# Altium schematic symbol library SCH - MCU - STM32 - ST MICROELECTRONICS STM32U5A9NJHXQ TFBGA216.SchLib: 1 symbol
Pins are listed as number, name and electrical type; pins without a type are passive.

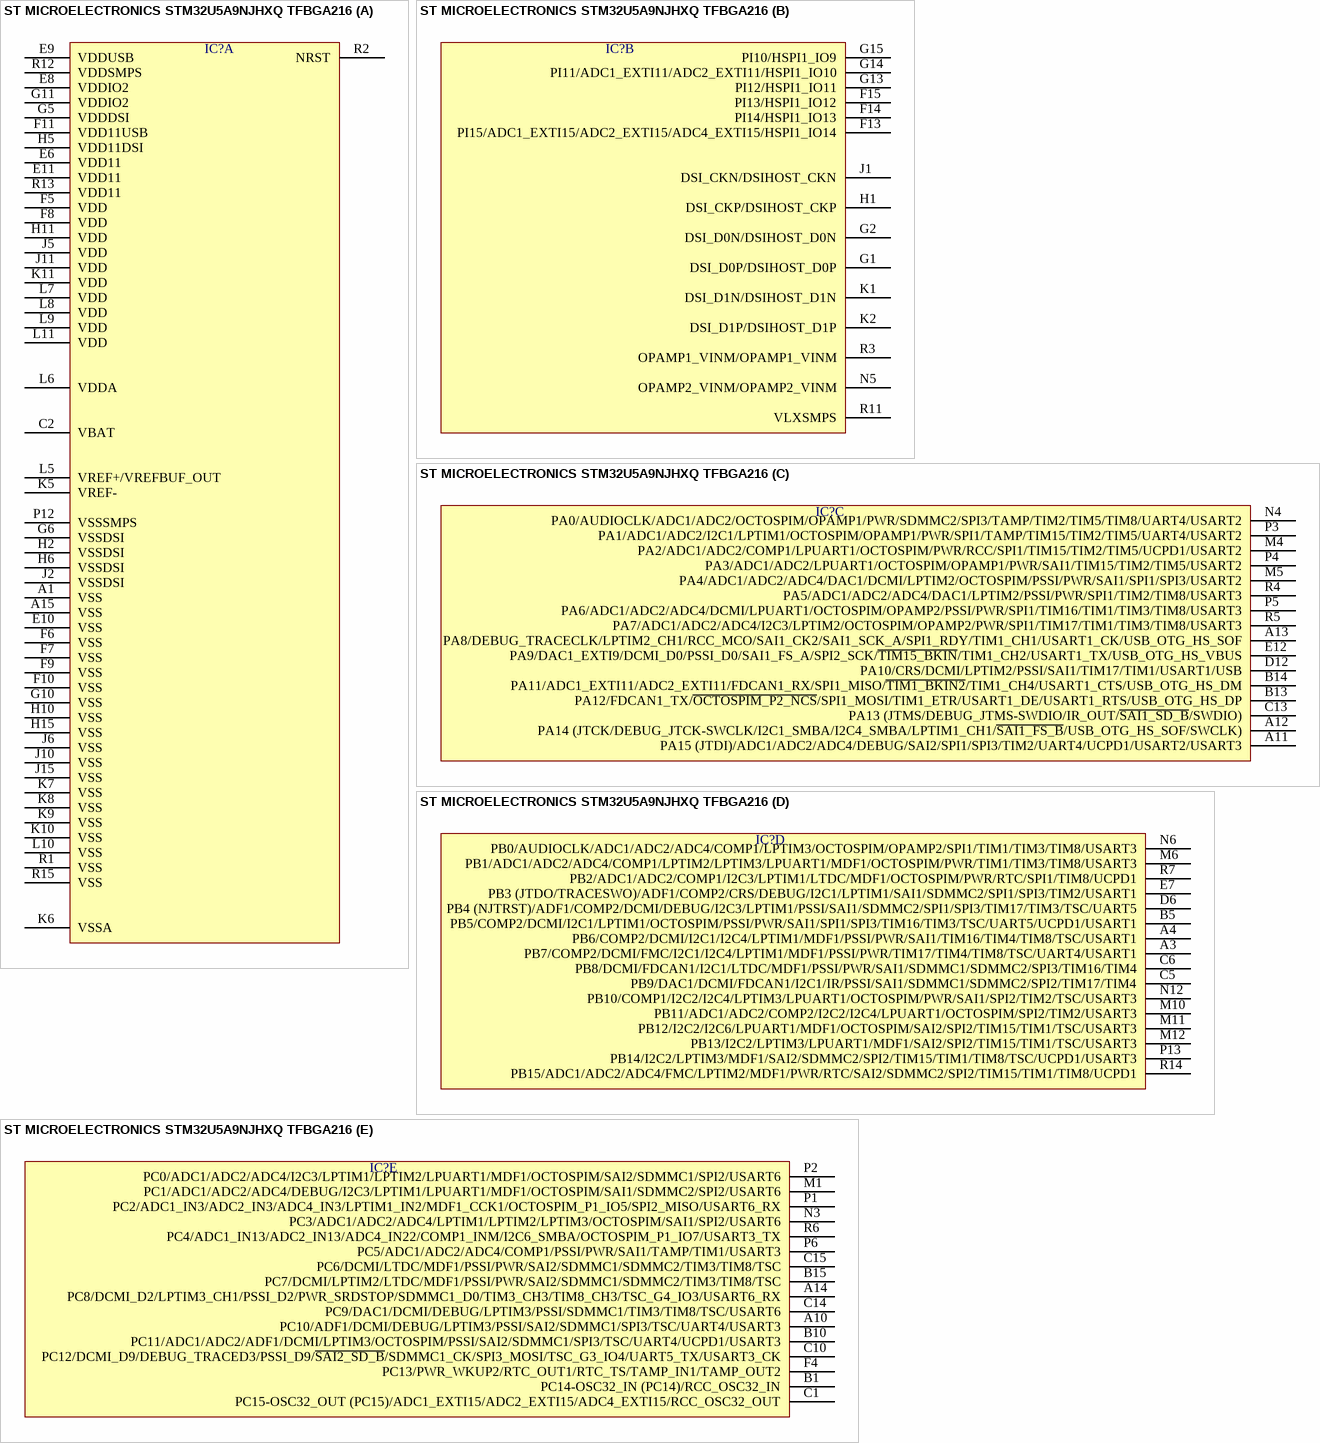
[diagram p0: symbol ST MICROELECTRONICS STM32U5A9NJHXQ TFBGA216]

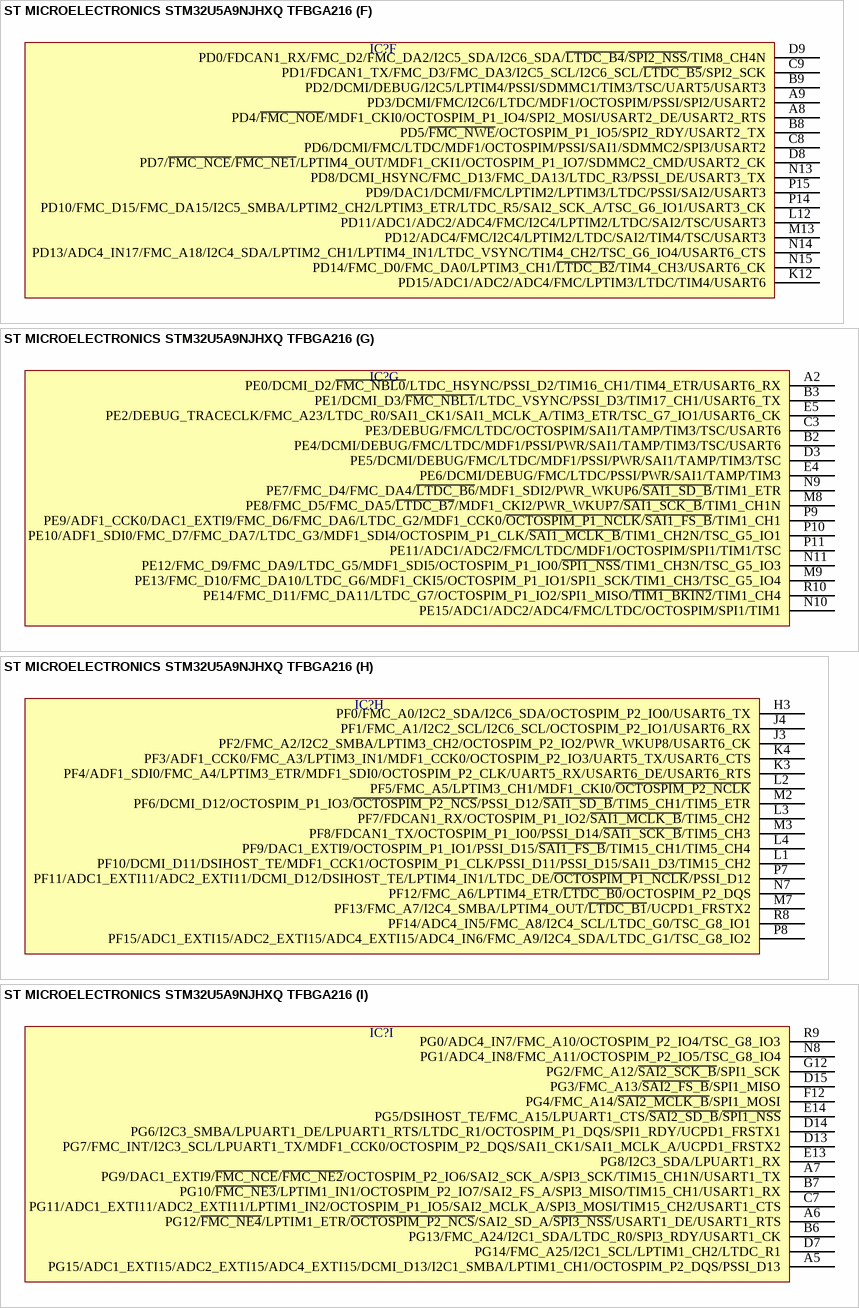
[diagram p1: symbol ST MICROELECTRONICS STM32U5A9NJHXQ TFBGA216]

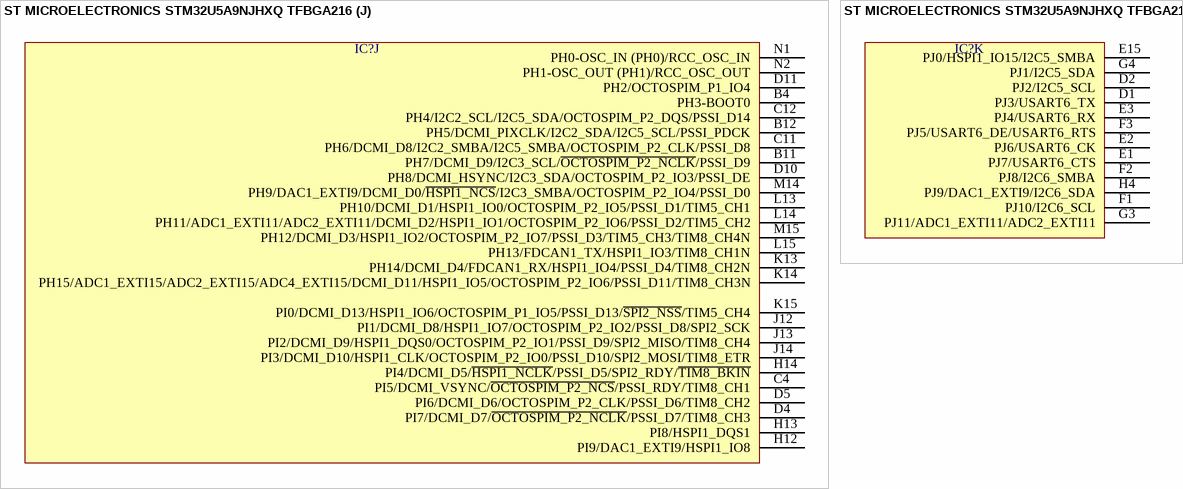
[diagram p2: symbol ST MICROELECTRONICS STM32U5A9NJHXQ TFBGA216]

## ST MICROELECTRONICS STM32U5A9NJHXQ TFBGA216
designator IC?  (value not drawn)
part A pins: A1 VSS, A15 VSS, C2 VBAT, E6 VDD11, E8 VDDIO2, E9 VDDUSB, E10 VSS, E11 VDD11, F5 VDD, F6 VSS, F7 VSS, F8 VDD, F9 VSS, F10 VSS, F11 VDD11USB, G5 VDDDSI, G6 VSSDSI, G10 VSS, G11 VDDIO2, H2 VSSDSI, H5 VDD11DSI, H6 VSSDSI, H10 VSS, H11 VDD, H15 VSS, J2 VSSDSI, J5 VDD, J6 VSS, J10 VSS, J11 VDD, J15 VSS, K5 VREF-, K6 VSSA, K7 VSS, K8 VSS, K9 VSS, K10 VSS, K11 VDD, L5 VREF+/VREFBUF_OUT, L6 VDDA, L7 VDD, L8 VDD, L9 VDD, L10 VSS, L11 VDD, P12 VSSSMPS, R1 VSS, R2 NRST, R12 VDDSMPS, R13 VDD11, R15 VSS
part B pins: F13 PI15/ADC1_EXTI15/ADC2_EXTI15/ADC4_EXTI15/HSPI1_IO14, F14 PI14/HSPI1_IO13, F15 PI13/HSPI1_IO12, G1 DSI_D0P/DSIHOST_D0P, G2 DSI_D0N/DSIHOST_D0N, G13 PI12/HSPI1_IO11, G14 PI11/ADC1_EXTI11/ADC2_EXTI11/HSPI1_IO10, G15 PI10/HSPI1_IO9, H1 DSI_CKP/DSIHOST_CKP, J1 DSI_CKN/DSIHOST_CKN, K1 DSI_D1N/DSIHOST_D1N, K2 DSI_D1P/DSIHOST_D1P, N5 OPAMP2_VINM/OPAMP2_VINM, R3 OPAMP1_VINM/OPAMP1_VINM, R11 VLXSMPS
part C pins: A11 PA15 (JTDI)/ADC1/ADC2/ADC4/DEBUG/SAI2/SPI1/SPI3/TIM2/UART4/UCPD1/USART2/USART3, A12 PA14 (JTCK/DEBUG_JTCK-SWCLK/I2C1_SMBA/I2C4_SMBA/LPTIM1_CH1/~{SAI1_FS_B}/USB_OTG_HS_SOF/SWCLK), A13 PA8/DEBUG_TRACECLK/LPTIM2_CH1/RCC_MCO/SAI1_CK2/SAI1_SCK_A/SPI1_RDY/TIM1_CH1/USART1_CK/USB_OTG_HS_SOF, B13 PA12/FDCAN1_TX/~{OCTOSPIM_P2_NCS}/SPI1_MOSI/TIM1_ETR/USART1_DE/USART1_RTS/USB_OTG_HS_DP, B14 PA11/ADC1_EXTI11/ADC2_EXTI11/FDCAN1_RX/SPI1_MISO/~{TIM1_BKIN2}/TIM1_CH4/USART1_CTS/USB_OTG_HS_DM, C13 PA13 (JTMS/DEBUG_JTMS-SWDIO/IR_OUT/~{SAI1_SD_B}/SWDIO), D12 PA10/CRS/DCMI/LPTIM2/PSSI/SAI1/TIM17/TIM1/USART1/USB, E12 PA9/DAC1_EXTI9/DCMI_D0/PSSI_D0/SAI1_FS_A/SPI2_SCK/~{TIM15_BKIN}/TIM1_CH2/USART1_TX/USB_OTG_HS_VBUS, M4 PA2/ADC1/ADC2/COMP1/LPUART1/OCTOSPIM/PWR/RCC/SPI1/TIM15/TIM2/TIM5/UCPD1/USART2, M5 PA4/ADC1/ADC2/ADC4/DAC1/DCMI/LPTIM2/OCTOSPIM/PSSI/PWR/SAI1/SPI1/SPI3/USART2, N4 PA0/AUDIOCLK/ADC1/ADC2/OCTOSPIM/OPAMP1/PWR/SDMMC2/SPI3/TAMP/TIM2/TIM5/TIM8/UART4/USART2, P3 PA1/ADC1/ADC2/I2C1/LPTIM1/OCTOSPIM/OPAMP1/PWR/SPI1/TAMP/TIM15/TIM2/TIM5/UART4/USART2, P4 PA3/ADC1/ADC2/LPUART1/OCTOSPIM/OPAMP1/PWR/SAI1/TIM15/TIM2/TIM5/USART2, P5 PA6/ADC1/ADC2/ADC4/DCMI/LPUART1/OCTOSPIM/OPAMP2/PSSI/PWR/SPI1/TIM16/TIM1/TIM3/TIM8/USART3, R4 PA5/ADC1/ADC2/ADC4/DAC1/LPTIM2/PSSI/PWR/SPI1/TIM2/TIM8/USART3, R5 PA7/ADC1/ADC2/ADC4/I2C3/LPTIM2/OCTOSPIM/OPAMP2/PWR/SPI1/TIM17/TIM1/TIM3/TIM8/USART3
part D pins: A3 PB7/COMP2/DCMI/FMC/I2C1/I2C4/LPTIM1/MDF1/PSSI/PWR/TIM17/TIM4/TIM8/TSC/UART4/USART1, A4 PB6/COMP2/DCMI/I2C1/I2C4/LPTIM1/MDF1/PSSI/PWR/SAI1/TIM16/TIM4/TIM8/TSC/USART1, B5 PB5/COMP2/DCMI/I2C1/LPTIM1/OCTOSPIM/PSSI/PWR/SAI1/SPI1/SPI3/TIM16/TIM3/TSC/UART5/UCPD1/USART1, C5 PB9/DAC1/DCMI/FDCAN1/I2C1/IR/PSSI/SAI1/SDMMC1/SDMMC2/SPI2/TIM17/TIM4, C6 PB8/DCMI/FDCAN1/I2C1/LTDC/MDF1/PSSI/PWR/SAI1/SDMMC1/SDMMC2/SPI3/TIM16/TIM4, D6 PB4 (NJTRST)/ADF1/COMP2/DCMI/DEBUG/I2C3/LPTIM1/PSSI/SAI1/SDMMC2/SPI1/SPI3/TIM17/TIM3/TSC/UART5, E7 PB3 (JTDO/TRACESWO)/ADF1/COMP2/CRS/DEBUG/I2C1/LPTIM1/SAI1/SDMMC2/SPI1/SPI3/TIM2/USART1, M6 PB1/ADC1/ADC2/ADC4/COMP1/LPTIM2/LPTIM3/LPUART1/MDF1/OCTOSPIM/PWR/TIM1/TIM3/TIM8/USART3, M10 PB11/ADC1/ADC2/COMP2/I2C2/I2C4/LPUART1/OCTOSPIM/SPI2/TIM2/USART3, M11 PB12/I2C2/I2C6/LPUART1/MDF1/OCTOSPIM/SAI2/SPI2/TIM15/TIM1/TSC/USART3, M12 PB13/I2C2/LPTIM3/LPUART1/MDF1/SAI2/SPI2/TIM15/TIM1/TSC/USART3, N6 PB0/AUDIOCLK/ADC1/ADC2/ADC4/COMP1/LPTIM3/OCTOSPIM/OPAMP2/SPI1/TIM1/TIM3/TIM8/USART3, N12 PB10/COMP1/I2C2/I2C4/LPTIM3/LPUART1/OCTOSPIM/PWR/SAI1/SPI2/TIM2/TSC/USART3, P13 PB14/I2C2/LPTIM3/MDF1/SAI2/SDMMC2/SPI2/TIM15/TIM1/TIM8/TSC/UCPD1/USART3, R7 PB2/ADC1/ADC2/COMP1/I2C3/LPTIM1/LTDC/MDF1/OCTOSPIM/PWR/RTC/SPI1/TIM8/UCPD1, R14 PB15/ADC1/ADC2/ADC4/FMC/LPTIM2/MDF1/PWR/RTC/SAI2/SDMMC2/SPI2/TIM15/TIM1/TIM8/UCPD1
part E pins: A10 PC10/ADF1/DCMI/DEBUG/LPTIM3/PSSI/SAI2/SDMMC1/SPI3/TSC/UART4/USART3, A14 PC8/DCMI_D2/LPTIM3_CH1/PSSI_D2/PWR_SRDSTOP/SDMMC1_D0/TIM3_CH3/TIM8_CH3/TSC_G4_IO3/USART6_RX, B1 PC14-OSC32_IN (PC14)/RCC_OSC32_IN, B10 PC11/ADC1/ADC2/ADF1/DCMI/LPTIM3/OCTOSPIM/PSSI/SAI2/SDMMC1/SPI3/TSC/UART4/UCPD1/USART3, B15 PC7/DCMI/LPTIM2/LTDC/MDF1/PSSI/PWR/SAI2/SDMMC1/SDMMC2/TIM3/TIM8/TSC, C1 PC15-OSC32_OUT (PC15)/ADC1_EXTI15/ADC2_EXTI15/ADC4_EXTI15/RCC_OSC32_OUT, C10 PC12/DCMI_D9/DEBUG_TRACED3/PSSI_D9/~{SAI2_SD_B}/SDMMC1_CK/SPI3_MOSI/TSC_G3_IO4/UART5_TX/USART3_CK, C14 PC9/DAC1/DCMI/DEBUG/LPTIM3/PSSI/SDMMC1/TIM3/TIM8/TSC/USART6, C15 PC6/DCMI/LTDC/MDF1/PSSI/PWR/SAI2/SDMMC1/SDMMC2/TIM3/TIM8/TSC, F4 PC13/PWR_WKUP2/RTC_OUT1/RTC_TS/TAMP_IN1/TAMP_OUT2, M1 PC1/ADC1/ADC2/ADC4/DEBUG/I2C3/LPTIM1/LPUART1/MDF1/OCTOSPIM/SAI1/SDMMC2/SPI2/USART6, N3 PC3/ADC1/ADC2/ADC4/LPTIM1/LPTIM2/LPTIM3/OCTOSPIM/SAI1/SPI2/USART6, P1 PC2/ADC1_IN3/ADC2_IN3/ADC4_IN3/LPTIM1_IN2/MDF1_CCK1/OCTOSPIM_P1_IO5/SPI2_MISO/USART6_RX, P2 PC0/ADC1/ADC2/ADC4/I2C3/LPTIM1/LPTIM2/LPUART1/MDF1/OCTOSPIM/SAI2/SDMMC1/SPI2/USART6, P6 PC5/ADC1/ADC2/ADC4/COMP1/PSSI/PWR/SAI1/TAMP/TIM1/USART3, R6 PC4/ADC1_IN13/ADC2_IN13/ADC4_IN22/COMP1_INM/I2C6_SMBA/OCTOSPIM_P1_IO7/USART3_TX
part F pins: A8 PD4/~{FMC_NOE}/MDF1_CKI0/OCTOSPIM_P1_IO4/SPI2_MOSI/USART2_DE/USART2_RTS, A9 PD3/DCMI/FMC/I2C6/LTDC/MDF1/OCTOSPIM/PSSI/SPI2/USART2, B8 PD5/~{FMC_NWE}/OCTOSPIM_P1_IO5/SPI2_RDY/USART2_TX, B9 PD2/DCMI/DEBUG/I2C5/LPTIM4/PSSI/SDMMC1/TIM3/TSC/UART5/USART3, C8 PD6/DCMI/FMC/LTDC/MDF1/OCTOSPIM/PSSI/SAI1/SDMMC2/SPI3/USART2, C9 PD1/FDCAN1_TX/FMC_D3/FMC_DA3/I2C5_SCL/I2C6_SCL/~{LTDC_B5}/SPI2_SCK, D8 PD7/~{FMC_NCE}/~{FMC_NE1}/LPTIM4_OUT/MDF1_CKI1/OCTOSPIM_P1_IO7/SDMMC2_CMD/USART2_CK, D9 PD0/FDCAN1_RX/FMC_D2/FMC_DA2/I2C5_SDA/I2C6_SDA/~{LTDC_B4}/~{SPI2_NSS}/TIM8_CH4N, K12 PD15/ADC1/ADC2/ADC4/FMC/LPTIM3/LTDC/TIM4/USART6, L12 PD11/ADC1/ADC2/ADC4/FMC/I2C4/LPTIM2/LTDC/SAI2/TSC/USART3, M13 PD12/ADC4/FMC/I2C4/LPTIM2/LTDC/SAI2/TIM4/TSC/USART3, N13 PD8/DCMI_HSYNC/FMC_D13/FMC_DA13/LTDC_R3/PSSI_DE/USART3_TX, N14 PD13/ADC4_IN17/FMC_A18/I2C4_SDA/LPTIM2_CH1/LPTIM4_IN1/LTDC_VSYNC/TIM4_CH2/TSC_G6_IO4/USART6_CTS, N15 PD14/FMC_D0/FMC_DA0/LPTIM3_CH1/~{LTDC_B2}/TIM4_CH3/USART6_CK, P14 PD10/FMC_D15/FMC_DA15/I2C5_SMBA/LPTIM2_CH2/LPTIM3_ETR/LTDC_R5/SAI2_SCK_A/TSC_G6_IO1/USART3_CK, P15 PD9/DAC1/DCMI/FMC/LPTIM2/LPTIM3/LTDC/PSSI/SAI2/USART3
part G pins: A2 PE0/DCMI_D2/~{FMC_NBL0}/LTDC_HSYNC/PSSI_D2/TIM16_CH1/TIM4_ETR/USART6_RX, B2 PE4/DCMI/DEBUG/FMC/LTDC/MDF1/PSSI/PWR/SAI1/TAMP/TIM3/TSC/USART6, B3 PE1/DCMI_D3/~{FMC_NBL1}/LTDC_VSYNC/PSSI_D3/TIM17_CH1/USART6_TX, C3 PE3/DEBUG/FMC/LTDC/OCTOSPIM/SAI1/TAMP/TIM3/TSC/USART6, D3 PE5/DCMI/DEBUG/FMC/LTDC/MDF1/PSSI/PWR/SAI1/TAMP/TIM3/TSC, E4 PE6/DCMI/DEBUG/FMC/LTDC/PSSI/PWR/SAI1/TAMP/TIM3, E5 PE2/DEBUG_TRACECLK/FMC_A23/LTDC_R0/SAI1_CK1/SAI1_MCLK_A/TIM3_ETR/TSC_G7_IO1/USART6_CK, M8 PE8/FMC_D5/FMC_DA5/~{LTDC_B7}/MDF1_CKI2/PWR_WKUP7/~{SAI1_SCK_B}/TIM1_CH1N, M9 PE13/FMC_D10/FMC_DA10/LTDC_G6/MDF1_CKI5/OCTOSPIM_P1_IO1/SPI1_SCK/TIM1_CH3/TSC_G5_IO4, N9 PE7/FMC_D4/FMC_DA4/~{LTDC_B6}/MDF1_SDI2/PWR_WKUP6/~{SAI1_SD_B}/TIM1_ETR, N10 PE15/ADC1/ADC2/ADC4/FMC/LTDC/OCTOSPIM/SPI1/TIM1, N11 PE12/FMC_D9/FMC_DA9/LTDC_G5/MDF1_SDI5/OCTOSPIM_P1_IO0/~{SPI1_NSS}/TIM1_CH3N/TSC_G5_IO3, P9 PE9/ADF1_CCK0/DAC1_EXTI9/FMC_D6/FMC_DA6/LTDC_G2/MDF1_CCK0/~{OCTOSPIM_P1_NCLK}/~{SAI1_FS_B}/TIM1_CH1, P10 PE10/ADF1_SDI0/FMC_D7/FMC_DA7/LTDC_G3/MDF1_SDI4/OCTOSPIM_P1_CLK/~{SAI1_MCLK_B}/TIM1_CH2N/TSC_G5_IO1, P11 PE11/ADC1/ADC2/FMC/LTDC/MDF1/OCTOSPIM/SPI1/TIM1/TSC, R10 PE14/FMC_D11/FMC_DA11/LTDC_G7/OCTOSPIM_P1_IO2/SPI1_MISO/~{TIM1_BKIN2}/TIM1_CH4
part H pins: H3 PF0/FMC_A0/I2C2_SDA/I2C6_SDA/OCTOSPIM_P2_IO0/USART6_TX, J3 PF2/FMC_A2/I2C2_SMBA/LPTIM3_CH2/OCTOSPIM_P2_IO2/PWR_WKUP8/USART6_CK, J4 PF1/FMC_A1/I2C2_SCL/I2C6_SCL/OCTOSPIM_P2_IO1/USART6_RX, K3 PF4/ADF1_SDI0/FMC_A4/LPTIM3_ETR/MDF1_SDI0/OCTOSPIM_P2_CLK/UART5_RX/USART6_DE/USART6_RTS, K4 PF3/ADF1_CCK0/FMC_A3/LPTIM3_IN1/MDF1_CCK0/OCTOSPIM_P2_IO3/UART5_TX/USART6_CTS, L1 PF10/DCMI_D11/DSIHOST_TE/MDF1_CCK1/OCTOSPIM_P1_CLK/PSSI_D11/PSSI_D15/SAI1_D3/TIM15_CH2, L2 PF5/FMC_A5/LPTIM3_CH1/MDF1_CKI0/~{OCTOSPIM_P2_NCLK}, L3 PF7/FDCAN1_RX/OCTOSPIM_P1_IO2/~{SAI1_MCLK_B}/TIM5_CH2, L4 PF9/DAC1_EXTI9/OCTOSPIM_P1_IO1/PSSI_D15/~{SAI1_FS_B}/TIM15_CH1/TIM5_CH4, M2 PF6/DCMI_D12/OCTOSPIM_P1_IO3/~{OCTOSPIM_P2_NCS}/PSSI_D12/~{SAI1_SD_B}/TIM5_CH1/TIM5_ETR, M3 PF8/FDCAN1_TX/OCTOSPIM_P1_IO0/PSSI_D14/~{SAI1_SCK_B}/TIM5_CH3, M7 PF13/FMC_A7/I2C4_SMBA/LPTIM4_OUT/~{LTDC_B1}/UCPD1_FRSTX2, N7 PF12/FMC_A6/LPTIM4_ETR/~{LTDC_B0}/OCTOSPIM_P2_DQS, P7 PF11/ADC1_EXTI11/ADC2_EXTI11/DCMI_D12/DSIHOST_TE/LPTIM4_IN1/LTDC_DE/~{OCTOSPIM_P1_NCLK}/PSSI_D12, P8 PF15/ADC1_EXTI15/ADC2_EXTI15/ADC4_EXTI15/ADC4_IN6/FMC_A9/I2C4_SDA/LTDC_G1/TSC_G8_IO2, R8 PF14/ADC4_IN5/FMC_A8/I2C4_SCL/LTDC_G0/TSC_G8_IO1
part I pins: A5 PG15/ADC1_EXTI15/ADC2_EXTI15/ADC4_EXTI15/DCMI_D13/I2C1_SMBA/LPTIM1_CH1/OCTOSPIM_P2_DQS/PSSI_D13, A6 PG12/~{FMC_NE4}/LPTIM1_ETR/~{OCTOSPIM_P2_NCS}/SAI2_SD_A/~{SPI3_NSS}/USART1_DE/USART1_RTS, A7 PG9/DAC1_EXTI9/~{FMC_NCE}/~{FMC_NE2}/OCTOSPIM_P2_IO6/SAI2_SCK_A/SPI3_SCK/TIM15_CH1N/USART1_TX, B6 PG13/FMC_A24/I2C1_SDA/LTDC_R0/SPI3_RDY/USART1_CK, B7 PG10/~{FMC_NE3}/LPTIM1_IN1/OCTOSPIM_P2_IO7/SAI2_FS_A/SPI3_MISO/TIM15_CH1/USART1_RX, C7 PG11/ADC1_EXTI11/ADC2_EXTI11/LPTIM1_IN2/OCTOSPIM_P1_IO5/SAI2_MCLK_A/SPI3_MOSI/TIM15_CH2/USART1_CTS, D7 PG14/FMC_A25/I2C1_SCL/LPTIM1_CH2/LTDC_R1, D13 PG7/FMC_INT/I2C3_SCL/LPUART1_TX/MDF1_CCK0/OCTOSPIM_P2_DQS/SAI1_CK1/SAI1_MCLK_A/UCPD1_FRSTX2, D14 PG6/I2C3_SMBA/LPUART1_DE/LPUART1_RTS/LTDC_R1/OCTOSPIM_P1_DQS/SPI1_RDY/UCPD1_FRSTX1, D15 PG3/FMC_A13/~{SAI2_FS_B}/SPI1_MISO, E13 PG8/I2C3_SDA/LPUART1_RX, E14 PG5/DSIHOST_TE/FMC_A15/LPUART1_CTS/~{SAI2_SD_B}/~{SPI1_NSS}, F12 PG4/FMC_A14/~{SAI2_MCLK_B}/SPI1_MOSI, G12 PG2/FMC_A12/~{SAI2_SCK_B}/SPI1_SCK, N8 PG1/ADC4_IN8/FMC_A11/OCTOSPIM_P2_IO5/TSC_G8_IO4, R9 PG0/ADC4_IN7/FMC_A10/OCTOSPIM_P2_IO4/TSC_G8_IO3
part J pins: B4 PH3-BOOT0, B11 PH7/DCMI_D9/I2C3_SCL/~{OCTOSPIM_P2_NCLK}/PSSI_D9, B12 PH5/DCMI_PIXCLK/I2C2_SDA/I2C5_SCL/PSSI_PDCK, C4 PI5/DCMI_VSYNC/~{OCTOSPIM_P2_NCS}/PSSI_RDY/TIM8_CH1, C11 PH6/DCMI_D8/I2C2_SMBA/I2C5_SMBA/OCTOSPIM_P2_CLK/PSSI_D8, C12 PH4/I2C2_SCL/I2C5_SDA/OCTOSPIM_P2_DQS/PSSI_D14, D4 PI7/DCMI_D7/~{OCTOSPIM_P2_NCLK}/PSSI_D7/TIM8_CH3, D5 PI6/DCMI_D6/OCTOSPIM_P2_CLK/PSSI_D6/TIM8_CH2, D10 PH8/DCMI_HSYNC/I2C3_SDA/OCTOSPIM_P2_IO3/PSSI_DE, D11 PH2/OCTOSPIM_P1_IO4, H12 PI9/DAC1_EXTI9/HSPI1_IO8, H13 PI8/HSPI1_DQS1, H14 PI4/DCMI_D5/~{HSPI1_NCLK}/PSSI_D5/SPI2_RDY/~{TIM8_BKIN}, J12 PI1/DCMI_D8/HSPI1_IO7/OCTOSPIM_P2_IO2/PSSI_D8/SPI2_SCK, J13 PI2/DCMI_D9/HSPI1_DQS0/OCTOSPIM_P2_IO1/PSSI_D9/SPI2_MISO/TIM8_CH4, J14 PI3/DCMI_D10/HSPI1_CLK/OCTOSPIM_P2_IO0/PSSI_D10/SPI2_MOSI/TIM8_ETR, K13 PH14/DCMI_D4/FDCAN1_RX/HSPI1_IO4/PSSI_D4/TIM8_CH2N, K14 PH15/ADC1_EXTI15/ADC2_EXTI15/ADC4_EXTI15/DCMI_D11/HSPI1_IO5/OCTOSPIM_P2_IO6/PSSI_D11/TIM8_CH3N, K15 PI0/DCMI_D13/HSPI1_IO6/OCTOSPIM_P1_IO5/PSSI_D13/~{SPI2_NSS}/TIM5_CH4, L13 PH10/DCMI_D1/HSPI1_IO0/OCTOSPIM_P2_IO5/PSSI_D1/TIM5_CH1, L14 PH11/ADC1_EXTI11/ADC2_EXTI11/DCMI_D2/HSPI1_IO1/OCTOSPIM_P2_IO6/PSSI_D2/TIM5_CH2, L15 PH13/FDCAN1_TX/HSPI1_IO3/TIM8_CH1N, M14 PH9/DAC1_EXTI9/DCMI_D0/~{HSPI1_NCS}/I2C3_SMBA/OCTOSPIM_P2_IO4/PSSI_D0, M15 PH12/DCMI_D3/HSPI1_IO2/OCTOSPIM_P2_IO7/PSSI_D3/TIM5_CH3/TIM8_CH4N, N1 PH0-OSC_IN (PH0)/RCC_OSC_IN, N2 PH1-OSC_OUT (PH1)/RCC_OSC_OUT
part K pins: D1 PJ3/USART6_TX, D2 PJ2/I2C5_SCL, E1 PJ7/USART6_CTS, E2 PJ6/USART6_CK, E3 PJ4/USART6_RX, E15 PJ0/HSPI1_IO15/I2C5_SMBA, F1 PJ10/I2C6_SCL, F2 PJ8/I2C6_SMBA, F3 PJ5/USART6_DE/USART6_RTS, G3 PJ11/ADC1_EXTI11/ADC2_EXTI11, G4 PJ1/I2C5_SDA, H4 PJ9/DAC1_EXTI9/I2C6_SDA